# EAGLE library part A3901SEJTR-T (library Allegro_By_element14_Batch_1)
Dual Full Bridge Low Voltage Motor Driver
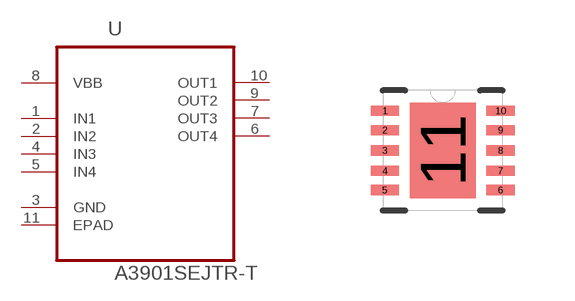
[diagram p0: symbol with the pads of DFN300X300X75-11N; footprint DFN300X300X75-11N]

Designator prefix U

## A3901SEJTR-T (MPN: A3901SEJTR-T; OC_FARNELL: 1651947; OC_NEWARK: 87K3379; PACKAGE: DFN-10; SUPPLIER: ALLEGRO MICROSYSTEMS)  [DFN300X300X75-11N]
1  IN1  in
2  IN2  in
3  GND  pas
4  IN3  in
5  IN4  in
6  OUT4  out
7  OUT3  out
8  VBB  pwr
9  OUT2  out
10  OUT1  out
11  EPAD  pas

## Footprint DFN300X300X75-11N (pad centres in mm)
smd 0.711 x 0.254: 1 -1.448,0.991; 2 -1.448,0.508; 3 -1.448,0; 4 -1.448,-0.508; 5 -1.448,-0.991; 6 1.448,-0.991; 7 1.448,-0.508; 8 1.448,0; 9 1.448,0.508; 10 1.448,0.991
smd 1.651 x 2.388: 11 0,0